# Altium schematic symbol library TCMD-15-D-20.00-01-RW.SchLib: 1 symbol
Pins are listed as number, name and electrical type; pins without a type are passive.

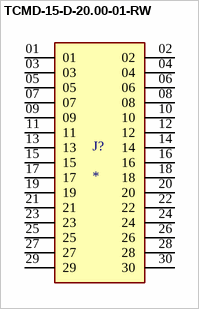
[diagram p0: symbol TCMD-15-D-20.00-01-RW]

## TCMD-15-D-20.00-01-RW
designator J?
TCMD Series 2.00 mm IDC Ribbon Cable Assembly, Terminal; MF: Samtec; MP: TCMD-15-D-20.00-01-RW; SnapEDA_Link: https://www.snapeda.com/parts/TCMD-15-D-20.00-01-RW/Samtec/view-part/?ref=snap; Package: None; Value: *; Check_prices: https://www.snapeda.com/parts/TCMD-15-D-20.00-01-RW/Samtec/view-part/?ref=eda
footprint SAMTEC_TCMD-15-D-20.00-01-RW
pins: 01, 02, 03, 04, 05, 06, 07, 08, 09, 10, 11, 12, 13, 14, 15, 16, 17, 18, 19, 20, 21, 22, 23, 24, 25, 26, 27, 28, 29, 30